# Altium schematic symbol library ETS_Library.SchLib: 127 symbols (part 2 of 3)
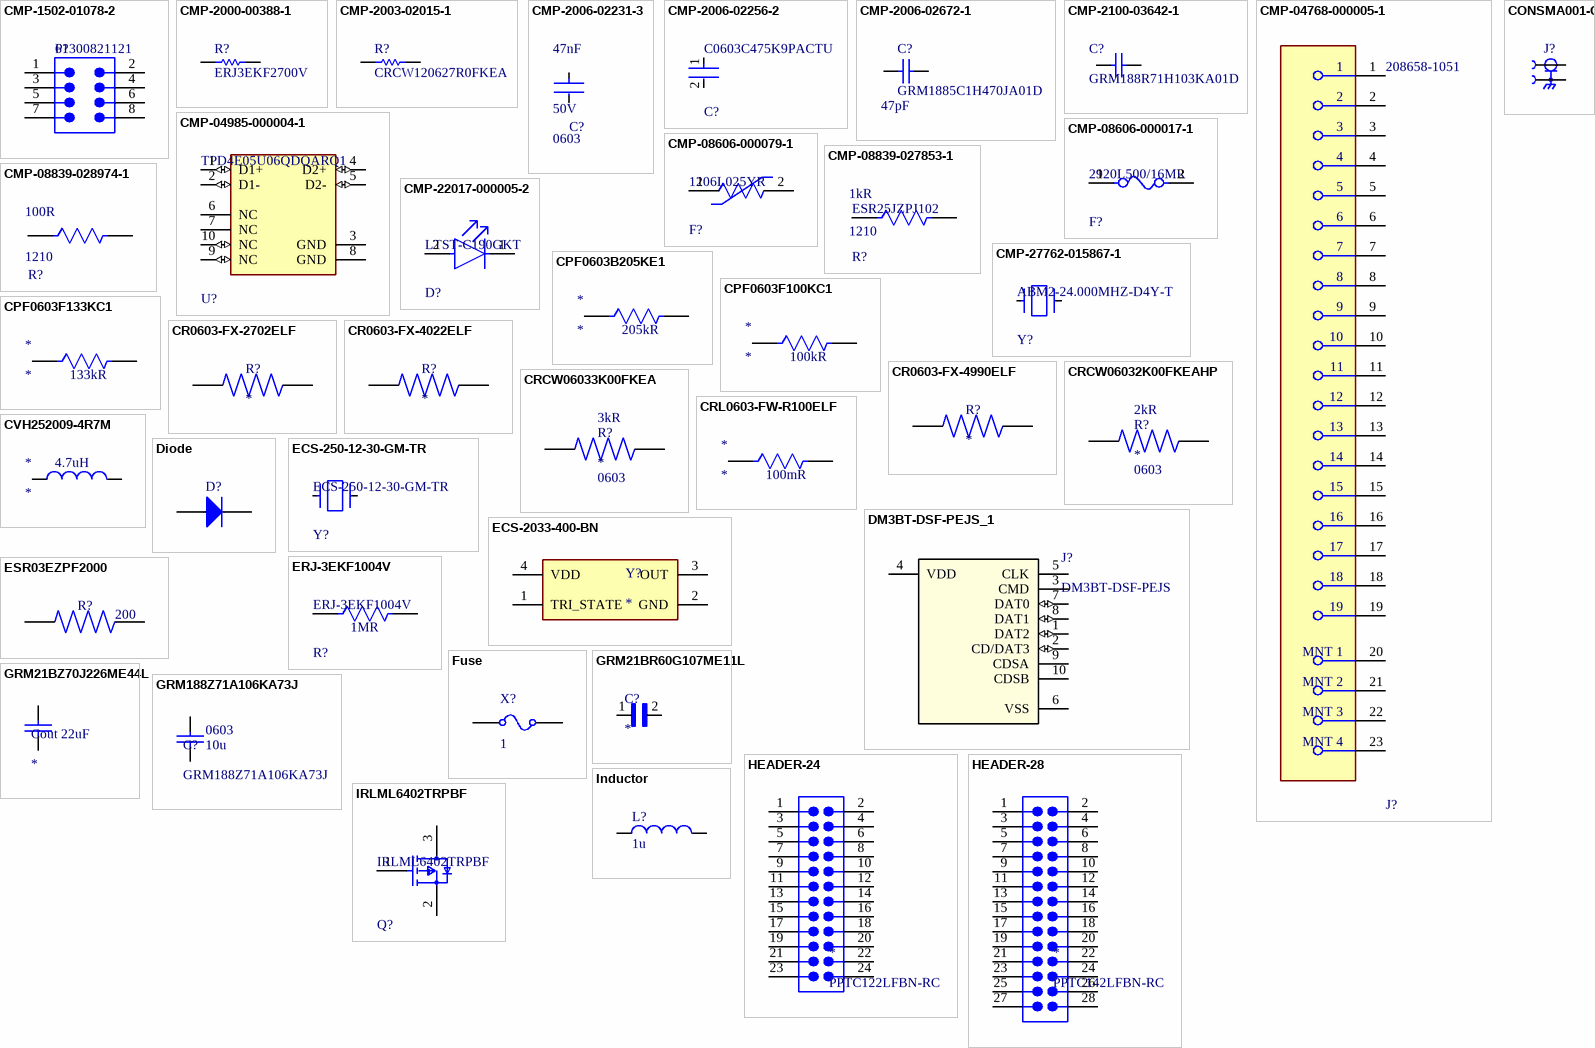
[diagram p4: symbols CMP-1502-01078-2 to IRLML6402TRPBF]

## CPF0603F100KC1
designator *  value 100kR
RES SMD 100K OHM 1% 1/16W 0603; Manufacturer: TE Connectivity Neohm; Manufacturer Part Number: CPF0603F100KC1; Additional Feature: PRECISION; Power: 63mW; Rated Temperature: 70°C; Temperature Coefficient: 50ppm/°C; Working Voltage: 50V; Package Height: 0.45mm; Package Length: 1.55mm; Package Width: 0.8mm; Supplier: Arrow Electronics; Supplier Part Number: CPF0603F100KC1; RoHS: Yes; Category: Chip SMD Resistors; Stock: 3000; Pricing: 1000=0.0177 (USD); Mounting Technology: Surface Mount; Pins: 2; Package Shape: Rectangular; Case/Package: 0603; Min Operating Temperature: -55°C; Max Operating Temperature: 155°C; Tolerance: 1%; Resistor Type: FIXED RESISTOR; Packaging: Tape and Reel; Technology: THIN FILM; Termination: Wraparound; Construction: Chip; Package Style: SMTMeter; Reach SVHC Compliant: Yes; RoHS Compliant: Yes; ComponentLink1URL: https://datasheet.ciiva.com:443/pdfs/VipMasterIC/IC/TYEL/TYEL-S-A0009515815/TYEL-S-A0009514233-1.pdf?src-supplier=IHS+Markit; ComponentLink1Description: https://datasheet.ciiva.com:443/pdfs/VipMasterIC/IC/TYEL/TYEL-S-A0009515815/TYEL-S-A0009514233-1.pdf?src-supplier=IHS+Markit; ComponentLink2URL: https://datasheet.ciiva.com/22692/1786775-22692855.pdf?src-supplier=Element14; ComponentLink2Description: https://datasheet.ciiva.com/22692/1786775-22692855.pdf?src-supplier=Element14; ComponentLink3URL: https://datasheet.ciiva.com/12794/eng-ds-1773200-i-12794495.pdf?src-supplier=Mouser; ComponentLink3Description: https://datasheet.ciiva.com/12794/eng-ds-1773200-i-12794495.pdf?src-supplier=Mouser; ComponentLink4URL: https://datasheet.ciiva.com/7789/eng-ds-1773200-j-7789557.pdf?src-supplier=Element14; ComponentLink4Description: https://datasheet.ciiva.com/7789/eng-ds-1773200-j-7789557.pdf?src-supplier=Element14
footprint RES_CPF0603_TEC
footprint RES_CPF0603_TEC-L
footprint RES_CPF0603_TEC-M
pins: 1, 2

## CPF0603F133KC1
designator *  value 133kR
RES SMD 133K OHM 1% 1/16W 0603; Manufacturer: TE Connectivity Neohm; Manufacturer Part Number: CPF0603F133KC1; Additional Feature: SEMI PRECISION; Power: 63mW; Rated Temperature: 70°C; Temperature Coefficient: 50ppm/°C; Working Voltage: 50V; Package Height: 0.45mm; Package Length: 1.55mm; Package Width: 0.8mm; Supplier: Newark; Supplier Part Number: 73M9717; RoHS: Yes; Category: Chip SMD Resistors; Stock: 179; Pricing: 1=0.153, 10=0.126, 25=0.098, 50=0.084, 100=0.056 (CAD); Mounting Technology: Surface Mount; Pins: 2; Package Shape: Rectangular; Case/Package: 0603; Min Operating Temperature: -55°C; Max Operating Temperature: 155°C; Tolerance: 1%; Resistor Type: FIXED RESISTOR; Packaging: Tape and Reel; Technology: THIN FILM; Termination: Wraparound; Construction: Chip; Package Style: SMTMeter; Reach SVHC Compliant: Yes; RoHS Compliant: Yes; ComponentLink1URL: https://www.te.com:443/usa-en/product-6-1879338-8.datasheet.pdf?src-supplier=IHS+Markit; ComponentLink1Description: https://www.te.com:443/usa-en/product-6-1879338-8.datasheet.pdf?src-supplier=IHS+Markit; ComponentLink2URL: https://datasheet.ciiva.com/22692/1786775-22692871.pdf?src-supplier=Element14; ComponentLink2Description: https://datasheet.ciiva.com/22692/1786775-22692871.pdf?src-supplier=Element14; ComponentLink3URL: https://datasheet.ciiva.com/7789/eng-ds-1773200-j-7789578.pdf?src-supplier=Element14; ComponentLink3Description: https://datasheet.ciiva.com/7789/eng-ds-1773200-j-7789578.pdf?src-supplier=Element14; ComponentLink4URL: https://datasheet.ciiva.com/12728/eng-ds-1773200-i-12728457.pdf?src-supplier=Mouser; ComponentLink4Description: https://datasheet.ciiva.com/12728/eng-ds-1773200-i-12728457.pdf?src-supplier=Mouser
footprint RES_CPF0603_TEC
footprint RES_CPF0603_TEC-L
footprint RES_CPF0603_TEC-M
pins: 1, 2

## CR0603-FX-2702ELF
designator R?
RES SMD 27K OHM 1% 1/10W 0603; MP: CR0603-FX-2702ELF; Package: None; Price: None; Value: *; Availability: Unavailable
footprint RESC1608X55N
pins: 1, 2

## CR0603-FX-4022ELF
designator R?
Resistor,Ruthenium Oxide,40.2KOhms,50WV,1+/-% Tol,-100,100ppm-TC,0603-Case <a href="https://pricing.snapeda.com/parts/CR0603-FX-4022ELF/Bourns/view-part?ref=eda">Check availability</a>; MF: {'manufacturer': u'Bourns Inc.'}; Package: None; Price: None; Value: *; MP: CR0603-FX-4022ELF; Availability: Unavailable
footprint RESC1608X55N
pins: 1, 2

## CR0603-FX-4990ELF
designator R?
Res Thick Film 0603 499 Ohm 1% 0.1W(1/10W) ??100ppm/C Molded SMD Paper Tape on Plastic Reel; MP: CR0603-FX-4990ELF; Package: None; Price: None; Value: *; Availability: Unavailable
footprint RESC1608X55N
pins: 1, 2

## CRCW06032K00FKEAHP
designator R?  value 2kR  Case/Package: 0603
RES SMD 2K OHM 1% 1/3W 0603; Manufacturer: Vishay; Manufacturer Part Number: CRCW06032K00FKEA; Power: 100mW; Rated Temperature: 70°C; Working Voltage: 75V; Temperature Coefficient (ppm/Cel): 100; Package Height: 0.45mm; Package Length: 1.55mm; Package Width: 0.85mm; Reference Standard: AEC-Q200; Supplier: Avnet; Supplier Part Number: CRCW06032K00FKEA; RoHS: Yes; Category: Chip SMD Resistors; Stock: 2445000; Pricing: 5000=0.00112 (USD); Mounting Technology: Surface Mount; Pins: 2; Terminal Finish: Nickel; Package Shape: Rectangular; Min Operating Temperature: -55°C; Max Operating Temperature: 155°C; Tolerance: 1%; JESD-609 Code: e3; Resistor Type: FIXED RESISTOR; Construction: Chip; Packaging: Tape and Reel; Technology: METAL GLAZE/THICK FILM; Termination: Wraparound; Reach SVHC Compliant: Yes; RoHS Compliant: Yes; ComponentLink1URL: https://datasheet.ciiva.com:443/pdfs/VipMasterIC/IC/VISH/VISH-S-A0007266705/VISH-S-A0007266705-1.pdf?src-supplier=IHS+Markit; ComponentLink1Description: https://datasheet.ciiva.com:443/pdfs/VipMasterIC/IC/VISH/VISH-S-A0007266705/VISH-S-A0007266705-1.pdf?src-supplier=IHS+Markit; ComponentLink2URL: https://datasheet.ciiva.com/2465/dcrcwe3-2465564.pdf?src-supplier=Digikey; ComponentLink2Description: https://datasheet.ciiva.com/2465/dcrcwe3-2465564.pdf?src-supplier=Digikey; ComponentLink3URL: https://datasheet.ciiva.com/2465/dcrcwe3-2465565.pdf?src-supplier=Digikey; ComponentLink3Description: https://datasheet.ciiva.com/2465/dcrcwe3-2465565.pdf?src-supplier=Digikey; ComponentLink4URL: https://datasheet.ciiva.com/2465/dcrcwe3-2465566.pdf?src-supplier=Digikey; ComponentLink4Description: https://datasheet.ciiva.com/2465/dcrcwe3-2465566.pdf?src-supplier=Digikey; ComponentLink5URL: https://datasheet.ciiva.com/16755/70201119-16755770.pdf?src-supplier=Allied+Electronics; ComponentLink5Description: https://datasheet.ciiva.com/16755/70201119-16755770.pdf?src-supplier=Allied+Electronics; ComponentLink6URL: https://datasheet.ciiva.com/16765/70201119-16765388.pdf?src-supplier=Allied+Electronics; ComponentLink6Description: https://datasheet.ciiva.com/16765/70201119-16765388.pdf?src-supplier=Allied+Electronics; ComponentLink7URL: https://datasheet.ciiva.com/7673/1720486-7673525.pdf?src-supplier=Element14; ComponentLink7Description: https://datasheet.ciiva.com/7673/1720486-7673525.pdf?src-supplier=Element14; ComponentLink8URL: https://datasheet.ciiva.com/28621/125364-28621397.pdf?src-supplier=Element14; ComponentLink8Description: https://datasheet.ciiva.com/28621/125364-28621397.pdf?src-supplier=Element14; ComponentLink9URL: https://datasheet.ciiva.com/3257/dcrcwe3-3257366.pdf?src-supplier=Avnet; ComponentLink9Description: https://datasheet.ciiva.com/3257/dcrcwe3-3257366.pdf?src-supplier=Avnet; ComponentLink10URL: https://datasheet.ciiva.com/3257/dcrcwe3-3257367.pdf?src-supplier=Avnet; ComponentLink10Description: https://datasheet.ciiva.com/3257/dcrcwe3-3257367.pdf?src-supplier=Avnet; ComponentLink11URL: https://datasheet.ciiva.com/26314/fld-crcw-e3-data-en-26314682.pdf?src-supplier=Distrelec; ComponentLink11Description: https://datasheet.ciiva.com/26314/fld-crcw-e3-data-en-26314682.pdf?src-supplier=Distrelec; ComponentLink12URL: https://datasheet.ciiva.com/5551/dcrcwe3-109170-5551994.pdf?src-supplier=Mouser; ComponentLink12Description: https://datasheet.ciiva.com/5551/dcrcwe3-109170-5551994.pdf?src-supplier=Mouser
footprint RC0603N_YAG
pins: 1, 2

## CRCW06033K00FKEA
designator R?  value 3kR  Case/Package: 0603
RES SMD 3K OHM 1% 1/10W 0603; Manufacturer: Vishay; Manufacturer Part Number: CRCW06033K00FKEA; Power: 100mW; Rated Temperature: 70°C; Working Voltage: 75V; Temperature Coefficient (ppm/Cel): 100; Package Height: 0.45mm; Package Length: 1.55mm; Package Width: 0.85mm; Reference Standard: AEC-Q200; Supplier: Avnet; Supplier Part Number: CRCW06033K00FKEA; RoHS: Yes; Category: Chip SMD Resistors; Stock: 1745000; Pricing: 5000=0.00112 (USD); Mounting Technology: Surface Mount; Pins: 2; Terminal Finish: Nickel; Package Shape: Rectangular; Min Operating Temperature: -55°C; Max Operating Temperature: 155°C; Tolerance: 1%; JESD-609 Code: e3; Resistor Type: FIXED RESISTOR; Construction: Chip; Packaging: Tape and Reel; Technology: METAL GLAZE/THICK FILM; Termination: Wraparound; Reach SVHC Compliant: Yes; RoHS Compliant: Yes; ComponentLink1URL: https://datasheet.ciiva.com:443/pdfs/VipMasterIC/IC/VISH/VISH-S-A0007266705/VISH-S-A0007266705-1.pdf?src-supplier=IHS+Markit; ComponentLink1Description: https://datasheet.ciiva.com:443/pdfs/VipMasterIC/IC/VISH/VISH-S-A0007266705/VISH-S-A0007266705-1.pdf?src-supplier=IHS+Markit; ComponentLink2URL: https://datasheet.ciiva.com/11809/0900766b80d98afc-11809944.pdf?src-supplier=Rs; ComponentLink2Description: https://datasheet.ciiva.com/11809/0900766b80d98afc-11809944.pdf?src-supplier=Rs; ComponentLink3URL: https://datasheet.ciiva.com/2466/dcrcwe3-2466029.pdf?src-supplier=Digikey; ComponentLink3Description: https://datasheet.ciiva.com/2466/dcrcwe3-2466029.pdf?src-supplier=Digikey; ComponentLink4URL: https://datasheet.ciiva.com/2466/dcrcwe3-2466030.pdf?src-supplier=Digikey; ComponentLink4Description: https://datasheet.ciiva.com/2466/dcrcwe3-2466030.pdf?src-supplier=Digikey; ComponentLink5URL: https://datasheet.ciiva.com/2466/dcrcwe3-2466031.pdf?src-supplier=Digikey; ComponentLink5Description: https://datasheet.ciiva.com/2466/dcrcwe3-2466031.pdf?src-supplier=Digikey; ComponentLink6URL: https://datasheet.ciiva.com/3257/dcrcwe3-3257528.pdf?src-supplier=Avnet; ComponentLink6Description: https://datasheet.ciiva.com/3257/dcrcwe3-3257528.pdf?src-supplier=Avnet; ComponentLink7URL: https://datasheet.ciiva.com/3257/dcrcwe3-3257529.pdf?src-supplier=Avnet; ComponentLink7Description: https://datasheet.ciiva.com/3257/dcrcwe3-3257529.pdf?src-supplier=Avnet; ComponentLink8URL: https://datasheet.ciiva.com/5545/dcrcwe3-109170-5545849.pdf?src-supplier=Mouser; ComponentLink8Description: https://datasheet.ciiva.com/5545/dcrcwe3-109170-5545849.pdf?src-supplier=Mouser; ComponentLink9URL: https://datasheet.ciiva.com/16767/70201119-16767917.pdf?src-supplier=Allied+Electronics; ComponentLink9Description: https://datasheet.ciiva.com/16767/70201119-16767917.pdf?src-supplier=Allied+Electronics; ComponentLink10URL: https://datasheet.ciiva.com/16778/70201119-16778734.pdf?src-supplier=Allied+Electronics; ComponentLink10Description: https://datasheet.ciiva.com/16778/70201119-16778734.pdf?src-supplier=Allied+Electronics; ComponentLink11URL: https://datasheet.ciiva.com/7690/1697337-7690717.pdf?src-supplier=Element14; ComponentLink11Description: https://datasheet.ciiva.com/7690/1697337-7690717.pdf?src-supplier=Element14; ComponentLink12URL: https://datasheet.ciiva.com/7690/1720486-7690863.pdf?src-supplier=Element14; ComponentLink12Description: https://datasheet.ciiva.com/7690/1720486-7690863.pdf?src-supplier=Element14
footprint RC0603N_YAG
pins: 1, 2

## CRL0603-FW-R100ELF
designator *  value 100mR
RES 0.1 OHM 1% 1/8W 0603; Manufacturer: Bourns; Manufacturer Part Number: CRL0603-FW-R100ELF; Temperature Coefficient: 200ppm/°C; Power Rating: 100mW; Supplier: Arrow Electronics; Supplier Part Number: CRL0603-FW-R100ELF; RoHS: Yes; Category: Chip SMD Resistors; Stock: 686; Pricing: 1=0.1408, 10=0.04, 25=0.0396, 100=0.0335, 250=0.0331, 500=0.0322 (USD); Mounting Technology: Surface Mount; Case/Package: 0603; Pins: 2; Contact Plating: Tin; Case Code (Imperial): 0603; Case Code (Metric): 1608; Min Operating Temperature: -55°C; Max Operating Temperature: 125°C; Tolerance: 1%; Resistor Type: Thick Film; Packaging: Tape and Reel; Package Quantity: 5000; Termination: SMD/SMT; Number of Terminations: 2; Max Power Dissipation: 100mW; Series: CRL; Resistance Tolerance: 1%; Technology: THICK FILM; Length: 1.6mm; Width: 0.8mm; Height: 0.45mm; Depth: 0.8mm; Radiation Hardening: No; Reach SVHC Compliant: No; RoHS Compliant: Yes; ComponentLink1URL: https://datasheet.ciiva.com/11821/0900766b80fcdbbc-11821107.pdf?src-supplier=Rs; ComponentLink1Description: https://datasheet.ciiva.com/11821/0900766b80fcdbbc-11821107.pdf?src-supplier=Rs; ComponentLink2URL: https://datasheet.ciiva.com/22693/1896411-22693272.pdf?src-supplier=Element14; ComponentLink2Description: https://datasheet.ciiva.com/22693/1896411-22693272.pdf?src-supplier=Element14; ComponentLink3URL: https://datasheet.ciiva.com/6548/crl-6548261.pdf?src-supplier=Digikey; ComponentLink3Description: https://datasheet.ciiva.com/6548/crl-6548261.pdf?src-supplier=Digikey; ComponentLink4URL: https://datasheet.ciiva.com/6548/crl-6548262.pdf?src-supplier=Digikey; ComponentLink4Description: https://datasheet.ciiva.com/6548/crl-6548262.pdf?src-supplier=Digikey; ComponentLink5URL: https://datasheet.ciiva.com/9120/crl-9120710.pdf?src-supplier=Avnet; ComponentLink5Description: https://datasheet.ciiva.com/9120/crl-9120710.pdf?src-supplier=Avnet
footprint BO_CR0603
footprint BO_CR0603-L
footprint BO_CR0603-M
pins: 1, 2

## CVH252009-4R7M
designator *  Inductance-Nom (L): 4.7uH
FIXED IND 4.7UH 1.1A 110MOHM SMD 1008; Manufacturer: Bourns; Manufacturer Part Number: CVH252009-4R7M; Core Material: Ferrite; Tolerance: 20%; Case/Size Code: 1008; DC Resistance (DCR): 110mR; Inductor Application: POWER INDUCTOR; Inductor Type: GENERAL PURPOSE INDUCTOR; Channels: 1; Self Resonant Frequency: 25MHz; Shape/Size Description: RECTANGULAR PACKAGE; Shielding: Shielded; Test Frequency: 1MHz; Supplier: Arrow Electronics; Supplier Part Number: CVH252009-4R7M; RoHS: Yes; Category: Fixed Inductors; Stock: 33000; Pricing: 3000=0.0982, 6000=0.0945, 15000=0.0918, 30000=0.0881, 75000=0.085 (USD); Pins: 2; Terminal Finish: Tin; Min Operating Temperature: -55°C; Max Operating Temperature: 125°C; JESD-609 Code: e3; Surface Mount: Yes; Max Current Rating: 1.1A; Terminal Placement: Dual Ended; Termination: Wraparound; Reach SVHC Compliant: Yes; RoHS Compliant: Yes; ComponentLink1URL: https://datasheet.ciiva.com:443/pdfs/VipMasterIC/IC/BOUR/BOUR-S-A0006761511/BOUR-S-A0006777658-1.pdf?src-supplier=IHS+Markit; ComponentLink1Description: https://datasheet.ciiva.com:443/pdfs/VipMasterIC/IC/BOUR/BOUR-S-A0006761511/BOUR-S-A0006777658-1.pdf?src-supplier=IHS+Markit; ComponentLink2URL: https://datasheet.ciiva.com/7849/1610598-7849319.pdf?src-supplier=Element14; ComponentLink2Description: https://datasheet.ciiva.com/7849/1610598-7849319.pdf?src-supplier=Element14; ComponentLink3URL: https://datasheet.ciiva.com/8003/1610598-8003733.pdf?src-supplier=Element14; ComponentLink3Description: https://datasheet.ciiva.com/8003/1610598-8003733.pdf?src-supplier=Element14; ComponentLink4URL: https://datasheet.ciiva.com/3079/cvh-3079748.pdf?src-supplier=Avnet; ComponentLink4Description: https://datasheet.ciiva.com/3079/cvh-3079748.pdf?src-supplier=Avnet; ComponentLink5URL: https://datasheet.ciiva.com/22874/70301233-22874397.pdf?src-supplier=Allied+Electronics; ComponentLink5Description: https://datasheet.ciiva.com/22874/70301233-22874397.pdf?src-supplier=Allied+Electronics
footprint IND_BOURNS_CVH252009
pins: 1, 2

## Diode
designator D?  (value not drawn)
AF: 1; BV: 0; BV_MAX: 1e99; EG: 1.11; FC: 0.5; IBV: 0.001; ISR: 1e-14; MJSW: 0.33; NTUN: 30; TNOM: 27; XTI: 3; SimulationGenericComponent: True; CJO: 0; CJP: 0; CTA: 0; CTP: 0; FCS: 0.5; FV_MAX: 1e99; IKF: 0; IKR: 0; JSW: 0; JTUN: 0; JTUNSW: 0; KEG: 1; KF: 0; LEVEL: 1; N: 1; NBV: 1; NR: 1; NS: 1; PHP: 1; RS: 0; TCV: 0; TLEV: 0; TLEVC: 0; TM1: 0; TM2: 0; TPB: 0; TPHP: 0; TRS: 0; TRS2: 0; TT: 0; TTT1: 0; TTT2: 0; VJ: 1; XTITUN: 3; IS: 1e-14
simulation model diode (Diodes)
pins: 1 A, 2 K

## DM3BT-DSF-PEJS_1
designator J?, comment DM3BT-DSF-PEJS
CONN MICRO SD CARD PUSH-PUSH R/A; Mfr_Name: Hirose; Copyright: Copyright (C) 2024 Ultra Librarian. All rights reserved.; Manufacturer_Part_Number: DM3BT-DSF-PEJS; RefDes: RefDes; Type: DEV
footprint DM3BT-DSF-PEJS_HIR
pins: 1 DAT2 (io), 2 CD/DAT3 (io), 3 CMD, 4 VDD (power), 5 CLK, 6 VSS (power), 7 DAT0 (io), 8 DAT1 (io), 9 CDSA, 10 CDSB

## ECS-250-12-30-GM-TR
designator Y?
CRYSTAL 25.0000MHZ 12PF SMD
footprint FP-ECX-53-MFG
pins: 1 In/Out, 2 Out/In

## ECS-2033-400-BN
designator Y?
subminiature SMD oscillators; MP: ECS-2033-400-BN; Package: None; Price: None; Value: *; Availability: Unavailable
footprint OSC_ECS-2033-400-BN
pins: 1 TRI_STATE, 2 GND (power), 3 OUT, 4 VDD

## ERJ-3EKF1004V
designator R?  Resistance: 1MR
RES SMD 1M OHM 1% 1/10W 0603; Voltage Rating: 75V; Temperature Coefficient: 100ppm/°C; Power Rating: 100mW; REACH SVHC: No SVHC; Radiation Hardening: No; Features: Automotive AEC-Q200; Case Code (Metric): 1608; Resistance Tolerance: 1%; Case/Package: 0603; Termination: SMD/SMT; Max Operating Temperature: 155°C; Tolerance: 1%; Size Code: 0603; Case Code (Imperial): 0603; Min Operating Temperature: -55°C; Number of Pins: 2; Mount: Surface Mount; Package Quantity: 1; Military Standard: Not; Voltage Rating (DC): 75V; Depth: 0.8mm; Packaging: Tape and Reel; Width: 0.8mm; Number of Terminations: 2; Length: 1.6mm; Height: 0.022inch; RoHS Compliant: Yes; Resistor Type: Thick Film; Contact Plating: Tin; Lead Free: Lead Free; Series: ERJ; Construction: Rectangular; Max Power Dissipation: 100mW
footprint FP-ERJ3EK-IPC_A
footprint FP-ERJ3EK-IPC_C
footprint FP-ERJ3EK-IPC_B
footprint FP-ERJ3EK-MFG
pins: 1, 2

## ESR03EZPF2000
designator R?  value 200  (hidden comment: ESR03EZPF2000)
RES 200 OHM 1% 1/4W 0603; Package: None; Price: None; MP: ESR03EZPF2000; Availability: Unavailable
footprint RESC1608X55N
pins: 1, 2

## Fuse
designator X?  CURRENT: 1  (hidden comment: Fuse)
RESISTANCE: 1m; SimulationGenericComponent: True
simulation model FUSE
pins: 1, 2

## GRM21BR60G107ME11L
designator C?
SMD Capacitor X5R(EIA) with Capacitance: 100uF Tol. 20%. Rated Voltage: 4Vdc; MP: GRM21BR60G107ME11L; Package: None; Price: None; Value: *; Availability: Unavailable
footprint CAPC2012X145N
pins: 1, 2

## GRM21BZ70J226ME44L
designator Cout  value 22uF
CAP CER 22UF 6.3V X7R 0805; Manufacturer: Murata; Manufacturer Part Number: GRM21BZ70J226ME44L; Dielectric Material: Ceramic; Multilayer: Yes; Tolerance  (fill in as +-): 20%; Supplier: Newark; Supplier Part Number: 66AJ7211; RoHS: Yes; Category: Ceramic Capacitors; Stock: 1070; Pricing: 10=0.191, 25=0.168, 50=0.145, 100=0.122 (USD); Mounting Technology: Surface Mount; Pins: 2; Package Shape: Rectangular; Case/Package: 0805; Min Operating Temperature: -55°C; Max Operating Temperature: 125°C; Capacitor Type: Ceramic; Packaging: Tape and Reel; Tolerance (fill in as +-): 20%; Rated DC Voltage (URdc): 6.3V; Temperature Characteristics Code: X7R; Termination: Wraparound; Reach SVHC Compliant: Yes; RoHS Compliant: Yes; ComponentLink1URL: https://psearch.en.murata.com:443/capacitor/product/GRM21BZ70J226ME44%23.pdf?src-supplier=IHS+Markit; ComponentLink1Description: https://psearch.en.murata.com:443/capacitor/product/GRM21BZ70J226ME44%23.pdf?src-supplier=IHS+Markit
footprint CAP_GRM21BZ_MUR
footprint CAP_GRM21BZ_MUR-L
footprint CAP_GRM21BZ_MUR-M
pins: 1, 2

## GRM188Z71A106KA73J
designator C?  value 10u  Package: 0603
CAP CER 10UF 10V X7R 0603; Manufacturer: Murata; Dielectric Material: Ceramic; Multilayer: Yes; Tolerance  (fill in as +-): 10%; Supplier: Mouser; Supplier Part Number: 81-GRM188Z71A106KA3J; Manufacturer Part Number: GRM188Z71A106KA73J; RoHS: Yes; Category: Ceramic Capacitors; Stock: 19133; Pricing: 1=0.23, 10=0.121, 50=0.121, 100=0.073, 1000=0.056, 10000=0.041 (USD); Mounting Technology: Surface Mount; Pins: 2; Package Shape: Rectangular; Min Operating Temperature: -55°C; Max Operating Temperature: 125°C; Capacitor Type: Ceramic; Packaging: Tape and Reel; Tolerance (fill in as +-): 10%; Rated DC Voltage (URdc): 10V; Temperature Characteristics Code: X7R; Termination: Wraparound; Reach SVHC Compliant: Yes; RoHS Compliant: Yes; ComponentLink1URL: https://psearch.en.murata.com:443/capacitor/product/GRM188Z71A106KA73%23.pdf?src-supplier=IHS+Markit; ComponentLink1Description: https://psearch.en.murata.com:443/capacitor/product/GRM188Z71A106KA73%23.pdf?src-supplier=IHS+Markit
footprint C0603-V2
pins: 1, 2

## HEADER-24
designator *, comment PPTC122LFBN-RC
CONN HDR 24POS 0.1 TIN PCB
footprint RHDR24W80P254_2X12_3098X508X870P
pins: 1, 2, 3, 4, 5, 6, 7, 8, 9, 10, 11, 12, 13, 14, 15, 16, 17, 18, 19, 20, 21, 22, 23, 24

## HEADER-28
designator *, comment PPTC142LFBN-RC
CONN HDR 28POS 0.1 TIN PCB
footprint CONN28_FBN-RC_SUL
pins: 1, 2, 3, 4, 5, 6, 7, 8, 9, 10, 11, 12, 13, 14, 15, 16, 17, 18, 19, 20, 21, 22, 23, 24, 25, 26, 27, 28

## Inductor
designator L?  value 1u  (hidden comment: Inductor)
SimulationGenericComponent: True
simulation model L_Inductor_Default (INDUCTOR)
pins: 1, 2

## IRLML6402TRPBF
designator Q?
MOSFET P-CH 20V 3.7A SOT-23; Manufacturer: Infineon; Reverse Recovery Time: 29ns; Max Forward Diode Voltage: -1.2V; Input Capacitace At Vds: 633pF @ -10V; Drain To Source Resistance: 0.05Ω; Gate To Source Voltage: 12V; Max Junction Temp: +150°C; Pulse Drain Current: -22A; Threshold Vgs Min: -0.4V; Turn Off Delay Time: 588ns; Number Of Channels: 1; Power Dissipation: 1.3W; Turn On Delay Time: 350ns; Drain To Source Breakdown Voltage: -20V; Continuous Drain Current: -3.7A; Depletion Mode: False; Gate Charge At Vgs: 8nC @ -5V; Rthja Max: 75°C/W; Threshold Vgs: -0.55V; Standoff Height: 0.01mm; Reverse Recovery Charge: 11nC; Device Class L2: Transistors; Ipc Land Pattern Name: SOT95P237X100-3; Temperature Range High: +150°C; Octopart: https://octopart.com/irlml6402trpbf-infineon-65874989; ComponentLink2URL: https://www.infineon.com/dgdl/irlml6402pbf.pdf?fileId=5546d462533600a401535668d5c2263c; Automotive: No; Manufacturer Part Number: IRLML6402TRPBF; Height: 1.12mm; Drain To Source Voltage: -20V; Digikey Description: MOSFET P-CH 20V 3.7A SOT-23; Device Class L1: Discrete Semiconductors; Package: Micro3; Lead Free: Yes; Temperature Range Low: -55°C; Number Of P Channels: 1; Technology: MOSFET; Temperature: -55°C to +150°C; Category: Trans; Footprint Url: http://irf.com/package/outline/po_micro3.pdf; RoHS: TRUE; Device Class L3: MOSFETs; Threshold Vgs Max: -1.2V; ComponentLink2Description: Datasheet
footprint FP-Micro3-MFG
pins: 1 G, 2 S, 3 D

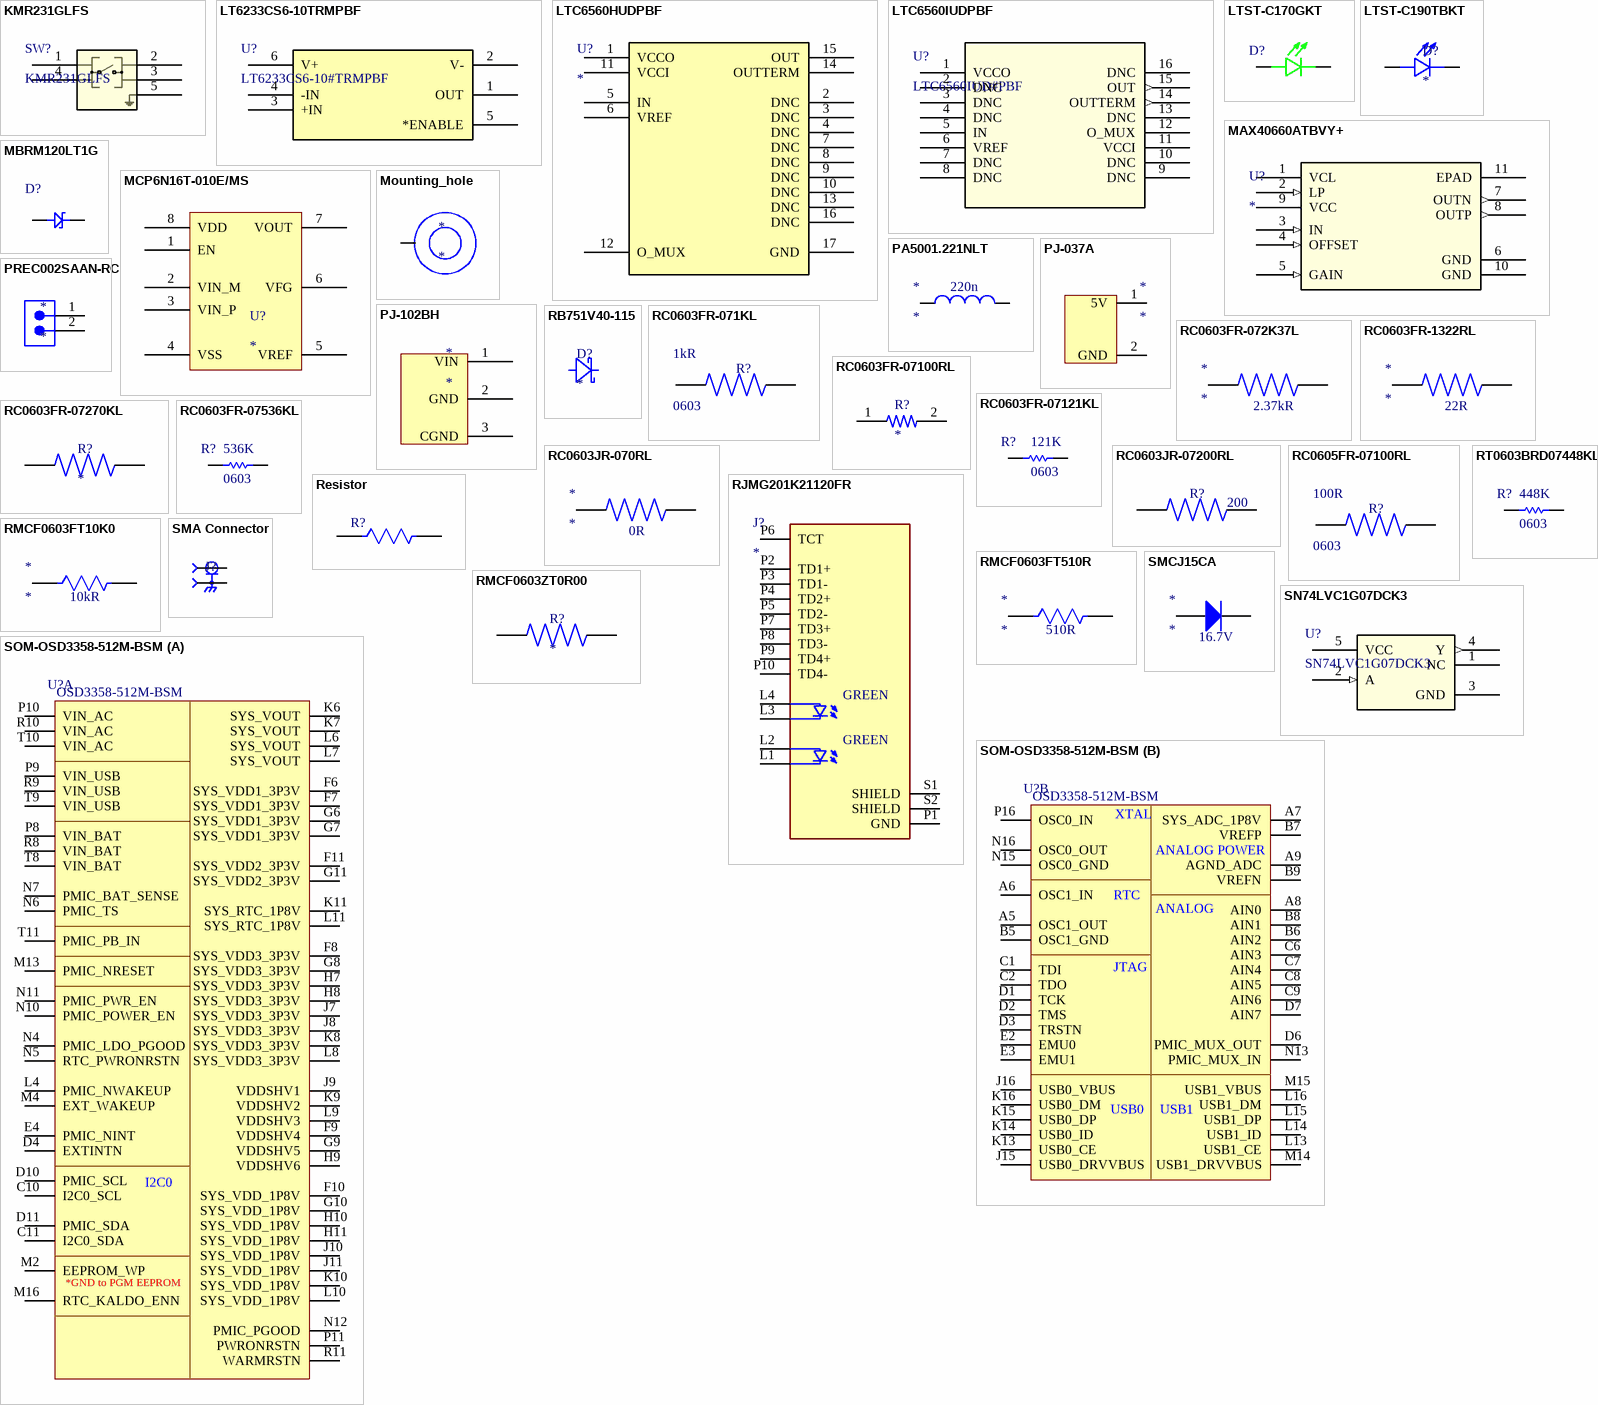
[diagram p2: symbols KMR231GLFS to SOM-OSD3358-512M-BSM]

## KMR231GLFS
designator SW?
SWITCH TACTILE SPST-NO 0.05A 32V; Mfr_Name: C&K Components; Copyright: Copyright (C) 2024 Ultra Librarian. All rights reserved.; Manufacturer_Part_Number: KMR231GLFS; RefDes: RefDes; Type: DEV
footprint KMR2xxG_CNK
pins: 1, 2, 3, 4, 5

## LT6233CS6-10TRMPBF
designator U?, comment LT6233CS6-10#TRMPBF
60MHz, Rail-to-Rail Output, 1.9nV/âˆšHz, 1.2mA Op Amp Family; Manufacturer_Name: Analog Devices Inc; Copyright: Copyright (C) 2025 Ultra Librarian. All rights reserved.; Manufacturer_Part_Number: LT6233CS6-10#TRMPBF; Datasheet: https://www.analog.com/media/en/technical-documentation/data-sheets/623345fc.pdf; RefDes: RefDes; Type: Type
footprint TSOT-23_S6_LIT
pins: 1 OUT, 2 V-, 3 +IN, 4 -IN, 5 *ENABLE, 6 V+

## LTC6560HUDPBF
designator U?
No Description Available; Mfr_Name: Analog Devices Inc; RefDes: RefDes; Type: Type
footprint QFN16_UD_ADI
pins: 1 VCCO, 2 DNC, 3 DNC, 4 DNC, 5 IN, 6 VREF, 7 DNC, 8 DNC, 9 DNC, 10 DNC, 11 VCCI, 12 O_MUX, 13 DNC, 14 OUTTERM, 15 OUT, 16 DNC, 17 GND

## LTC6560IUDPBF
designator U?, comment LTC6560IUD#PBF
Single Channel Transimpedance Amplifier with Output Multiplexing; Manufacturer_Name: Analog Devices Inc; Copyright: Copyright (C) 2025 Ultra Librarian. All rights reserved.; Manufacturer_Part_Number: LTC6560IUD#PBF; Datasheet: https://www.analog.com/media/en/technical-documentation/data-sheets/LTC6560.pdf; RefDes: RefDes; Type: Type
footprint QFN_16_ADI
pins: 1 VCCO (power), 2 DNC, 3 DNC, 4 DNC, 5 IN, 6 VREF (power), 7 DNC, 8 DNC, 9 DNC, 10 DNC, 11 VCCI (power), 12 O_MUX, 13 DNC, 14 OUTTERM (out), 15 OUT (out), 16 DNC

## LTST-C170GKT
designator D?  (value not drawn)
LED GREEN CLEAR SMD; Manufacturer_Name: LITE-ON; Copyright: Copyright (C) 2025 Ultra Librarian. All rights reserved.; Manufacturer_Part_Number: LTST-C170GKT
footprint LED_LTST-C170GKT_LTO
pins: 1, 2

## LTST-C190TBKT
designator D?
Blue 470nm LED Indication - Discrete 3.3V 0603 (1608 Metric); MF: Lite-On Inc.; MP: LTST-C190TBKT; SnapEDA_Link: https://www.snapeda.com/parts/LTST-C190TBKT/Lite-On+Inc./view-part/?ref=snap; Package: 0603 Lite-On; Value: *; Check_prices: https://www.snapeda.com/parts/LTST-C190TBKT/Lite-On+Inc./view-part/?ref=eda
footprint LEDC1608X35N
pins: A, C

## MAX40660ATBVY+
designator U?
No Description Available; Mfr_Name: Analog Devices / Maxim Integrated; RefDes: RefDes; Type: Type
footprint 21-100317_MXM
pins: 1 VCL (power), 2 LP (in), 3 IN (in), 4 OFFSET (in), 5 GAIN (in), 6 GND (power), 7 OUTN (out), 8 OUTP (out), 9 VCC (power), 10 GND (power), 11 EPAD (power)

## MBRM120LT1G
designator D?  (value not drawn)
DIODE SCHOTTKY 20V 1A POWERMITE; Manufacturer: On Semiconductor; IFSM Max (A): 50; Configuration: Single; Packing: Tape and Reel; ComponentLink1Description: Manufacturer URL; ComponentLink3URL: http://www.onsemi.com/pub_link/Collateral/457-04.PDF; PackageDescription: 2-Pin POWERMITE, Body 1.965 x 1.9 mm; DatasheetVersion: Rev. 7; Mounting Technology: Surface Mount; ComponentLink1URL: http://www.onsemi.com/; PackageVersion: Rev. F, 05/2013; ComponentLink2Description: Datasheet; PackageReference: POWERMITE-2-457-04; RoHS: TRUE; PartNumber: MBRM120LT1G; ComponentLink2URL: http://www.onsemi.cn/pub_link/Collateral/MBRM120L-D.PDF; ComponentLink3Description: Package Specification
footprint ONSC-POWERMITE-2-457-04_D_V (POWERMITE, 2-Leads, Body 1.965x1.9mm)
pins: 1 K, 2 A

## MCP6N16T-010E/MS
designator U?
IC INST AMP 1 CIRCUIT 8MSOP; Manufacturer: Microchip; Manufacturer Part Number: MCP6N16T-010E/MS; Amplifier Type: INSTRUMENTATION AMPLIFIER; Time @ Peak Reflow Temperature-Max (s): 40s; Supplier: Newark; Supplier Part Number: 44AC2577; RoHS: Yes; Category: Amplifiers - Op Amps, Buffer, Instrumentation; Stock: 1362; Pricing: 1=2.64, 10=2.54, 25=2.16 (USD); Terminal Finish: Tin; JESD-609 Code: e3; Moisture Sensitivity Level: 1; Peak Reflow Temperature (Cel): 260°C; Reach SVHC Compliant: Yes; RoHS Compliant: Yes; ComponentLink1URL: https://datasheet.ciiva.com:443/pdfs/VipMasterIC/IC/MCHP/MCHPS05684/MCHPS05684-1.pdf?src-supplier=IHS+Markit; ComponentLink1Description: https://datasheet.ciiva.com:443/pdfs/VipMasterIC/IC/MCHP/MCHPS05684/MCHPS05684-1.pdf?src-supplier=IHS+Markit; ComponentLink2URL: http://www.mouser.com/ds/2/268/20005318A-355773.pdf?src-supplier=Mouser; ComponentLink2Description: http://www.mouser.com/ds/2/268/20005318A-355773.pdf?src-supplier=Mouser; ComponentLink3URL: http://ww1.microchip.com/downloads/en/DeviceDoc/20005318A.pdf?src-supplier=Avnet; ComponentLink3Description: http://ww1.microchip.com/downloads/en/DeviceDoc/20005318A.pdf?src-supplier=Avnet; ComponentLink4URL: http://www.microchip.com/mymicrochip/filehandler.aspx?ddocname=en571166&src-supplier=Digikey; ComponentLink4Description: http://www.microchip.com/mymicrochip/filehandler.aspx?ddocname=en571166&src-supplier=Digikey; ComponentLink5URL: https://datasheet.octopart.com/MCP6N16T-010E-MS-Microchip-datasheet-27889795.pdf?src-supplier=microchipDIRECT; ComponentLink5Description: https://datasheet.octopart.com/MCP6N16T-010E-MS-Microchip-datasheet-27889795.pdf?src-supplier=microchipDIRECT; ComponentLink6URL: https://datasheet.octopart.com/MCP6N16T-010E-MS-Microchip-datasheet-27889795.pdf?src-supplier=Electro+Sonic; ComponentLink6Description: https://datasheet.octopart.com/MCP6N16T-010E-MS-Microchip-datasheet-27889795.pdf?src-supplier=Electro+Sonic; ComponentLink7URL: https://datasheet.octopart.com/MCP6N16T-010E-MS-Microchip-datasheet-27889795.pdf?src-supplier=Master+Electronics; ComponentLink7Description: https://datasheet.octopart.com/MCP6N16T-010E-MS-Microchip-datasheet-27889795.pdf?src-supplier=Master+Electronics
footprint SOP65P490X110-8N
pins: 1 EN, 2 VIN_M, 3 VIN_P, 4 VSS, 5 VREF, 6 VFG, 7 VOUT, 8 VDD

## Mounting_hole
designator *
footprint Mounting_hole
pins: 1

## PA5001.221NLT
designator *  Inductance: 220n
FIXED IND 220NH 16.8A 4.6MOHM SM; Supplier 1: Arrow Electronics; Supplier Part Number 1: PA5001.221NLT
footprint Model Name (Footprint not found)
footprint PA5001.221NLT
pins: 1, 2

## PJ-037A
designator *
CONN PWR JACK 2X5.5MM SOLDER; Manufacturer: CUI; Manufacturer Part Number: PJ-037A; Shielding: Unshielded; Number of Conductors: 2; Supplier: Arrow Electronics; Supplier Part Number: PJ-037A; RoHS: Yes; Category: Uncategorized; Stock: 60000; Pricing: 3000=0.298700, 5000=0.294700 (USD); Termination: Through Hole; Connector Type: Jack; Orientation: Horizontal; Lead Free: Lead Free; ComponentLink1URL: http://www.mouser.com/ds/2/670/pj-037a-516020.pdf?src-supplier=Mouser; ComponentLink1Description: http://www.mouser.com/ds/2/670/pj-037a-516020.pdf?src-supplier=Mouser; ComponentLink2URL: https://www.cui.com/product/resource/digikeypdf/pj-037a.pdf?src-supplier=Digikey; ComponentLink2Description: https://www.cui.com/product/resource/digikeypdf/pj-037a.pdf?src-supplier=Digikey; ComponentLink3URL: http://www.cui.com/Product/Resource/FuturePDF/PJ-037A.pdf?src-supplier=Future+Electronics; ComponentLink3Description: http://www.cui.com/Product/Resource/FuturePDF/PJ-037A.pdf?src-supplier=Future+Electronics
pins: 1 5V, 2 GND

## PJ-102BH
designator *
2.5 x 6.5 mm, 5.0 A, Horizontal, Through Hole, Tapered Pins, Dc Power Jack Connector; Manufacturer: CUI; Manufacturer Part Number: PJ-102BH; Shielding: Unshielded; Number of Conductors: 2; Supplier: Arrow Electronics; Supplier Part Number: PJ-102BH; RoHS: Yes; Category: Uncategorized; Termination: Through Hole; Connector Type: Jack; Packaging: Bulk; Orientation: Horizontal; Diameter: 2.5mm; Lead Free: Lead Free; ComponentLink1URL: http://www.mouser.com/ds/2/670/PJ-102BH-524153.pdf?src-supplier=Mouser; ComponentLink1Description: http://www.mouser.com/ds/2/670/PJ-102BH-524153.pdf?src-supplier=Mouser; ComponentLink2URL: https://www.cui.com/product/resource/digikeypdf/pj-102bh.pdf?src-supplier=Digikey; ComponentLink2Description: https://www.cui.com/product/resource/digikeypdf/pj-102bh.pdf?src-supplier=Digikey; ComponentLink3URL: http://www.cui.com/Product/Resource/FuturePDF/PJ-102BH.pdf?src-supplier=Future+Electronics; ComponentLink3Description: http://www.cui.com/Product/Resource/FuturePDF/PJ-102BH.pdf?src-supplier=Future+Electronics
footprint CUI_PJ-102BH
pins: 1 VIN, 2 GND, 3 CGND

## PREC002SAAN-RC
designator *
CONN HEADER .100 SNGL STR 2POS; Manufacturer: Sullins; Manufacturer Part Number: PREC002SAAN-RC; Number of Positions: 2; Pitch: 0.1inch; Supplier: Digikey; Supplier Part Number: S1012EC-02-ND; RoHS: Yes; Category: Connectors; Stock: 28469; Pricing: 1=0.1, 10=0.039, 100=0.0287, 500=0.02378, 1000=0.02081, 5000=0.01784, 10000=0.01734 (USD); Mounting Technology: Through Hole; Color: Black; Contact Plating: Tin; Package Quantity: 1; Number of Rows: 1; Packaging: Bulk; Termination: Solder; Series: -; Contact Type: Male Pin; Contact Mating Length: 0.23inch; RoHS Compliant: Yes; ComponentLink1URL: https://datasheet.ciiva.com/740/zrzczzzszzn-rc-st-11635-b-740843.pdf?src-supplier=Digikey; ComponentLink1Description: https://datasheet.ciiva.com/740/zrzczzzszzn-rc-st-11635-b-740843.pdf?src-supplier=Digikey
footprint CONN_PREC002SAAN-RC_SUL
pins: 1, 2

## RB751V40-115
designator D?
Diode Schottky 40 V 120mA (DC) Surface Mount SOD-323; MF: Nexperia USA; MP: RB751V40,115; Package: SOD323-2 Nexperia USA Inc.; Price: None; Check_prices: https://www.snapeda.com/parts/RB751V40,115/Nexperia/view-part/?ref=eda; Value: *; SnapEDA_Link: https://www.snapeda.com/parts/RB751V40,115/Nexperia/view-part/?ref=snap; Availability: In Stock; Purchase-URL: https://pricing.snapeda.com/search/part/RB751V40,115/?ref=eda
footprint SOD323(NXP)REFLOW
pins: A ANODE (io), C CATHODE (io)

## RC0603FR-071KL
designator R?  value 1kR  Case/Package: 0603  (hidden comment: *)
Fixed Resistor, Metal Glaze/thick Film, 0.1W, 1000ohm, 75V, 1% +/-Tol, 100ppm/Cel, Surface Mount, 0603; Manufacturer: Yageo; Manufacturer Part Number: RC0603FR-071KL; Additional Feature: LASER TRIMMABLE; Rated Temperature: 70°C; Temperature Coefficient (ppm/Cel): 100; Power: 100mW; Package Height: 0.45mm; Package Length: 1.6mm; Package Width: 0.8mm; Supplier: Avnet; Supplier Part Number: RC0603FR-071KL; RoHS: Yes; Category: Chip SMD Resistors; Stock: 765000; Pricing: 5000=0.00146, 10000=0.00141, 20000=0.00136, 30000=0.00131, 40000=0.00127 (USD); Mounting Technology: Surface Mount; Pins: 2; Package Shape: Rectangular; Terminal Finish: Nickel; Min Operating Temperature: -55°C; Max Operating Temperature: 155°C; Tolerance: 1%; JESD-609 Code: e3; Technology: METAL GLAZE/THICK FILM; Resistor Type: FIXED RESISTOR; Construction: Chip; Packaging: Tape and Reel; Termination: Wraparound; Working Voltage: 75V; Reach SVHC Compliant: Yes; RoHS Compliant: Yes; ComponentLink1URL: https://datasheet.ciiva.com:443/pdfs/VipMasterIC/IC/YAGO/YAGO-S-A0008145938/YAGO-S-A0008145938-1.pdf?src-supplier=IHS+Markit; ComponentLink1Description: https://datasheet.ciiva.com:443/pdfs/VipMasterIC/IC/YAGO/YAGO-S-A0008145938/YAGO-S-A0008145938-1.pdf?src-supplier=IHS+Markit; ComponentLink2URL: https://datasheet.ciiva.com/11808/0900766b80f96399-11808081.pdf?src-supplier=Rs; ComponentLink2Description: https://datasheet.ciiva.com/11808/0900766b80f96399-11808081.pdf?src-supplier=Rs; ComponentLink3URL: https://datasheet.ciiva.com/7660/1868787-7660790.pdf?src-supplier=Element14; ComponentLink3Description: https://datasheet.ciiva.com/7660/1868787-7660790.pdf?src-supplier=Element14; ComponentLink4URL: https://datasheet.ciiva.com/7746/1738695-7746279.pdf?src-supplier=Element14; ComponentLink4Description: https://datasheet.ciiva.com/7746/1738695-7746279.pdf?src-supplier=Element14; ComponentLink5URL: https://datasheet.ciiva.com/7746/1686128-7746280.pdf?src-supplier=Element14; ComponentLink5Description: https://datasheet.ciiva.com/7746/1686128-7746280.pdf?src-supplier=Element14; ComponentLink6URL: https://datasheet.ciiva.com/7746/1738695-7746281.pdf?src-supplier=Element14; ComponentLink6Description: https://datasheet.ciiva.com/7746/1738695-7746281.pdf?src-supplier=Element14; ComponentLink7URL: https://datasheet.ciiva.com/7983/443971-7983613.pdf?src-supplier=Element14; ComponentLink7Description: https://datasheet.ciiva.com/7983/443971-7983613.pdf?src-supplier=Element14; ComponentLink8URL: https://datasheet.ciiva.com/15189/getdatasheetpartid-404327-15189644.pdf?src-supplier=Verical; ComponentLink8Description: https://datasheet.ciiva.com/15189/getdatasheetpartid-404327-15189644.pdf?src-supplier=Verical; ComponentLink9URL: https://datasheet.ciiva.com/8896/pyu-rc0603-51-rohs-l-4-8896106.pdf?src-supplier=Avnet; ComponentLink9Description: https://datasheet.ciiva.com/8896/pyu-rc0603-51-rohs-l-4-8896106.pdf?src-supplier=Avnet
footprint RC0603N_YAG
pins: 1, 2

## RC0603FR-072K37L
designator *  value 2.37kR
RES 2.37K OHM 1% 1/10W 0603; Manufacturer: Yageo; Manufacturer Part Number: RC0603FR-072K37L; Additional Feature: LASER TRIMMABLE; Power: 100mW; Rated Temperature: 70°C; Temperature Coefficient: 100ppm/°C; Working Voltage: 75V; Package Height: 0.45mm; Package Length: 1.6mm; Package Width: 0.8mm; Supplier: Future Electronics; Supplier Part Number: 2048874; RoHS: Yes; Category: Chip SMD Resistors; Stock: 255000; Pricing: 5000=0.0015, 50000=0.0014, 150000=0.0014, 375000=0.0013, 1000000=0.0012 (USD); Mounting Technology: Surface Mount; Pins: 2; Package Shape: Rectangular; Case/Package: 0603; Terminal Finish: Nickel; Min Operating Temperature: -55°C; Max Operating Temperature: 155°C; Tolerance: 1%; JESD-609 Code: e3; Resistor Type: FIXED RESISTOR; Construction: Chip; Package Style: SMTMeter; Packaging: Tape and Reel; Technology: METAL GLAZE/THICK FILM; Termination: Wraparound; Reach SVHC Compliant: Yes; RoHS Compliant: Yes; ComponentLink1URL: https://datasheet.ciiva.com:443/pdfs/VipMasterIC/IC/YAGO/YAGO-S-A0008145938/YAGO-S-A0008145938-1.pdf?src-supplier=IHS+Markit; ComponentLink1Description: https://datasheet.ciiva.com:443/pdfs/VipMasterIC/IC/YAGO/YAGO-S-A0008145938/YAGO-S-A0008145938-1.pdf?src-supplier=IHS+Markit; ComponentLink2URL: https://datasheet.ciiva.com/2491/pyu-r-int-thick-7-2491295.pdf?src-supplier=Digikey; ComponentLink2Description: https://datasheet.ciiva.com/2491/pyu-r-int-thick-7-2491295.pdf?src-supplier=Digikey; ComponentLink3URL: https://datasheet.ciiva.com/2491/pyu-r-int-thick-7-2491296.pdf?src-supplier=Digikey; ComponentLink3Description: https://datasheet.ciiva.com/2491/pyu-r-int-thick-7-2491296.pdf?src-supplier=Digikey; ComponentLink4URL: https://datasheet.ciiva.com/2491/pyu-r-int-thick-7-2491294.pdf?src-supplier=Digikey; ComponentLink4Description: https://datasheet.ciiva.com/2491/pyu-r-int-thick-7-2491294.pdf?src-supplier=Digikey
footprint RC0603N_YAG
pins: 1, 2

## RC0603FR-1322RL
designator *  value 22R
RES 22 OHM 1% 1/10W 0603; Manufacturer: Yageo; Manufacturer Part Number: RC0603FR-1322RL; Additional Feature: LASER TRIMMABLE; Power: 100mW; Rated Temperature: 70°C; Temperature Coefficient: 100ppm/°C; Working Voltage: 75V; Package Height: 0.45mm; Package Length: 1.6mm; Package Width: 0.8mm; Supplier: Future Electronics; Supplier Part Number: 3067715; RoHS: Yes; Category: Chip SMD Resistors; Stock: 400000; Pricing: 20000=0.001, 100000=0.0009, 500000=0.0009, 1000000=0.0009, 3000000=0.0008 (USD); Mounting Technology: Surface Mount; Pins: 2; Package Shape: Rectangular; Case/Package: 0603; Terminal Finish: Nickel; Min Operating Temperature: -55°C; Max Operating Temperature: 155°C; Tolerance: 1%; JESD-609 Code: e3; Resistor Type: FIXED RESISTOR; Construction: Chip; Package Style: SMTMeter; Packaging: Tape and Reel; Technology: METAL GLAZE/THICK FILM; Termination: Wraparound; Reach SVHC Compliant: Yes; RoHS Compliant: Yes; ComponentLink1URL: https://datasheet.ciiva.com:443/pdfs/VipMasterIC/IC/YAGO/YAGO-S-A0008145938/YAGO-S-A0008145938-1.pdf?src-supplier=IHS+Markit; ComponentLink1Description: https://datasheet.ciiva.com:443/pdfs/VipMasterIC/IC/YAGO/YAGO-S-A0008145938/YAGO-S-A0008145938-1.pdf?src-supplier=IHS+Markit; ComponentLink2URL: https://datasheet.ciiva.com/12575/rc0603-272842-12575373.pdf?src-supplier=Mouser; ComponentLink2Description: https://datasheet.ciiva.com/12575/rc0603-272842-12575373.pdf?src-supplier=Mouser
footprint RC0603N_YAG
pins: 1, 2

## RC0603FR-07100RL
designator R?
RES SMT 100R 1% 0603 T/R PICK#92931; MP: RC0603FR-07100RL; Package: None; Availability: Unavailable; Price: None; Value: *
footprint RESC1607X60N
pins: 1, 2

## RC0603FR-07121KL
designator R?  value 121K  Case/Package: 0603  (hidden comment: RC0603FR-07121KL)
RES 121K OHM 1% 1/10W 0603; ComponentLink1URL: https://datasheet.ciiva.com:443/pdfs/VipMasterIC/IC/YAGO/YAGO-S-A0008145938/YAGO-S-A0008145938-1.pdf?src-supplier=IHS+Markit; ComponentLink1Description: https://datasheet.ciiva.com:443/pdfs/VipMasterIC/IC/YAGO/YAGO-S-A0008145938/YAGO-S-A0008145938-1.pdf?src-supplier=IHS+Markit; Supplier 1: Avnet; Supplier Part Number 1: RC0603FR-07121KL
footprint R0603 (Chip Resistor, 2-Leads, Body 1.60x0.80mm, IPC Low Density)
pins: 1, 2

## RC0603FR-07270KL
designator R?
Surface Mount Thick Film Resistor, RC Series, 270 kohm, 100 mW, - 1%, 50 V, 0603 [1608 Metric]; MP: RC0603FR-07270KL; MF: Yageo; Package: 1608 Yageo; Purchase-URL: https://pricing.snapeda.com/search/part/RC0603FR-07270KL/?ref=eda; Check_prices: https://www.snapeda.com/parts/RC0603FR-07270KL/Yageo/view-part/106076/?ref=eda; Price: None; Availability: Warning; SnapEDA_Link: https://www.snapeda.com/parts/RC0603FR-07270KL/Yageo/view-part/106076/?ref=snap; Value: *
footprint RESC1608X55N
pins: 1, 2

## RC0603FR-07536KL
designator R?  value 536K  Case/Package: 0603  (hidden comment: RC0603FR-07536KL)
RES 536K OHM 1% 1/10W 0603; ComponentLink1URL: https://datasheet.ciiva.com:443/pdfs/VipMasterIC/IC/YAGO/YAGO-S-A0008145938/YAGO-S-A0008145938-1.pdf?src-supplier=IHS+Markit; ComponentLink1Description: https://datasheet.ciiva.com:443/pdfs/VipMasterIC/IC/YAGO/YAGO-S-A0008145938/YAGO-S-A0008145938-1.pdf?src-supplier=IHS+Markit; Supplier 1: Avnet; Supplier Part Number 1: 49AK2679
footprint R0603 (Chip Resistor, 2-Leads, Body 1.60x0.80mm, IPC Low Density)
pins: 1, 2

## RC0603JR-070RL
designator *  value 0R
Metal Glaze/thick Film, 0.1W, 0ohm, Surface Mount, 0603; Manufacturer: Yageo; Manufacturer Part Number: RC0603JR-070RL; Power: 100mW; Rated Temperature: 70°C; Package Height: 0.45mm; Package Length: 1.6mm; Package Width: 0.8mm; Supplier: Future Electronics; Supplier Part Number: 3992146; RoHS: Yes; Category: Chip SMD Resistors; Stock: 21660000; Pricing: 5000=0.0015, 50000=0.0014, 150000=0.0014, 375000=0.0013, 1000000=0.0012 (USD); Mounting Technology: Surface Mount; Pins: 2; Package Shape: Rectangular; Case/Package: 0603; Terminal Finish: Nickel; Min Operating Temperature: -55°C; Max Operating Temperature: 155°C; JESD-609 Code: e3; Resistor Type: FIXED RESISTOR; Construction: Chip; Package Style: SMTMeter; Packaging: Tape and Reel; Technology: METAL GLAZE/THICK FILM; Termination: Wraparound; Reach SVHC Compliant: Yes; RoHS Compliant: Yes; ComponentLink1URL: https://datasheet.ciiva.com:443/pdfs/VipMasterIC/IC/YAGO/YAGO-S-A0008145938/YAGO-S-A0008145938-1.pdf?src-supplier=IHS+Markit; ComponentLink1Description: https://datasheet.ciiva.com:443/pdfs/VipMasterIC/IC/YAGO/YAGO-S-A0008145938/YAGO-S-A0008145938-1.pdf?src-supplier=IHS+Markit; ComponentLink2URL: https://datasheet.ciiva.com/11808/pyu-r-int-6-11808700.pdf?src-supplier=Rs; ComponentLink2Description: https://datasheet.ciiva.com/11808/pyu-r-int-6-11808700.pdf?src-supplier=Rs; ComponentLink3URL: https://datasheet.ciiva.com/22747/443971-22747530.pdf?src-supplier=Element14; ComponentLink3Description: https://datasheet.ciiva.com/22747/443971-22747530.pdf?src-supplier=Element14; ComponentLink4URL: https://datasheet.ciiva.com/12555/rc0603-272842-12555254.pdf?src-supplier=Mouser; ComponentLink4Description: https://datasheet.ciiva.com/12555/rc0603-272842-12555254.pdf?src-supplier=Mouser; ComponentLink5URL: https://datasheet.ciiva.com/7746/1738695-7746421.pdf?src-supplier=Element14; ComponentLink5Description: https://datasheet.ciiva.com/7746/1738695-7746421.pdf?src-supplier=Element14; ComponentLink6URL: https://datasheet.ciiva.com/7746/1738695-7746422.pdf?src-supplier=Element14; ComponentLink6Description: https://datasheet.ciiva.com/7746/1738695-7746422.pdf?src-supplier=Element14; ComponentLink7URL: https://datasheet.ciiva.com/8883/pyu-rc0603-51-rohs-l-4-8883045.pdf?src-supplier=Avnet; ComponentLink7Description: https://datasheet.ciiva.com/8883/pyu-rc0603-51-rohs-l-4-8883045.pdf?src-supplier=Avnet; ComponentLink8URL: https://datasheet.ciiva.com/15189/getdatasheetpartid-329462-15189845.pdf?src-supplier=Verical; ComponentLink8Description: https://datasheet.ciiva.com/15189/getdatasheetpartid-329462-15189845.pdf?src-supplier=Verical
footprint RES_RC0603_YAG
pins: 1, 2

## RC0603JR-07200RL
designator R?  value 200  (hidden comment: RC0603JR-07200RL)
RES 200 OHM 5% 1/10W 0603; MF: Yageo; SnapEDA_Link: https://www.snapeda.com/parts/RC0603JR-07200RL/Yageo/view-part/?ref=snap; Package: 1608 Yageo; MP: RC0603JR-07200RL; Check_prices: https://www.snapeda.com/parts/RC0603JR-07200RL/Yageo/view-part/?ref=eda
footprint RESC1608X55N
pins: 1, 2

## RC0605FR-07100RL
designator R?  value 100R  Case/Package: 0603  (hidden comment: *)
Fixed Resistor, Metal Glaze/thick Film, 0.1W, 100ohm, 75V, 1% +/-Tol, 100ppm/Cel, Surface Mount, 0603; Manufacturer: Yageo; Manufacturer Part Number: RC0603FR-07100RL; Power: 100mW; Rated Temperature: 70°C; Temperature Coefficient (ppm/Cel): 100; Additional Feature: LASER TRIMMABLE; Package Height: 0.45mm; Package Length: 1.6mm; Package Width: 0.8mm; Supplier: Avnet; Supplier Part Number: RC0603FR-07100RL; RoHS: Yes; Category: Chip SMD Resistors; Stock: 2650000; Pricing: 5000=0.00146, 10000=0.00141, 20000=0.00136, 30000=0.00131, 40000=0.00127 (USD); Mounting Technology: Surface Mount; Pins: 2; Package Shape: Rectangular; Terminal Finish: Nickel; Min Operating Temperature: -55°C; Max Operating Temperature: 155°C; Tolerance: 1%; Resistor Type: FIXED RESISTOR; Packaging: Tape and Reel; Technology: METAL GLAZE/THICK FILM; Termination: Wraparound; Working Voltage: 75V; JESD-609 Code: e3; Construction: Chip; RoHS Compliant: Yes; Reach SVHC Compliant: Yes; ComponentLink1URL: https://datasheet.ciiva.com:443/pdfs/VipMasterIC/IC/YAGO/YAGO-S-A0008145938/YAGO-S-A0008145938-1.pdf?src-supplier=IHS+Markit; ComponentLink1Description: https://datasheet.ciiva.com:443/pdfs/VipMasterIC/IC/YAGO/YAGO-S-A0008145938/YAGO-S-A0008145938-1.pdf?src-supplier=IHS+Markit
footprint RC0603N_YAG
pins: 1, 2

## Resistor
designator R?  (value not drawn)
TC1: 0; SimulationGenericComponent: True; TC2: 0
simulation model R_Resistor_Default (Model Description)
pins: 1, 2

## RJMG201K21120FR
designator J?
RJMG, Input output Connectors, 1x1 1000 base-T LED; MF: Amphenol ICC (Commercial Products); MP: RJMG201K21120FR; Package: None; Price: None; Check_prices: https://www.snapeda.com/parts/RJMG201K21120FR/Amphenol/view-part/?ref=eda; Value: *; SnapEDA_Link: https://www.snapeda.com/parts/RJMG201K21120FR/Amphenol/view-part/?ref=snap; Availability: In Stock; Purchase-URL: https://pricing.snapeda.com/search/part/RJMG201K21120FR/?ref=eda
footprint AMPHENOL_RJMG201K21120FR
pins: L1, L2, L3, L4, P1 GND (power), P2 TD1+, P3 TD1-, P4 TD2+, P5 TD2-, P6 TCT, P7 TD3+, P8 TD3-, P9 TD4+, P10 TD4-, S1 SHIELD, S2 SHIELD
text: GREEN

## RMCF0603FT10K0
designator *  value 10kR
RES 10K OHM 1% 1/10W 0603; Manufacturer: Stackpole Electronics; Manufacturer Part Number: RMCF0603FT10K0; Power Rating: 100mW; Temperature Coefficient: 100ppm/°C; Voltage Rating: 75V; Supplier: Arrow Electronics; Supplier Part Number: RMCF0603FT10K0; RoHS: Yes; Category: Chip SMD Resistors; Stock: 10250000; Pricing: 5000=0.003, 10000=0.0027, 25000=0.0023, 35000=0.0022, 50000=0.0021, 125000=0.0021 (USD); Mounting Technology: Surface Mount; Case/Package: 0603; Case Code (Metric): 1608; Case Code (Imperial): 0603; Contact Plating: Tin,Matte; Min Operating Temperature: -55°C; Max Operating Temperature: 155°C; Tolerance: 1%; Packaging: Tape and Reel; Number of Terminations: 2; Max Power Dissipation: 100mW; Features: Automotive AEC-Q200; Series: RMCF; Construction: Rectangular; Length: 1.55mm; Width: 0.031inch; Height: 0.022inch; Depth: 0.8mm; Ratings: AEC-Q200; Radiation Hardening: No; Military Standard: Not; Lead Free: Lead Free; RoHS Compliant: Yes; ComponentLink1URL: http://components.arrow.com/part/dataview/43747082S6756917N1174?src-supplier=Arrow+Electronics; ComponentLink1Description: http://components.arrow.com/part/dataview/43747082S6756917N1174?src-supplier=Arrow+Electronics; ComponentLink2URL: https://datasheet.octopart.com/RMCF0603FT10K0-Stackpole-Electronics-datasheet-11547379.pdf?src-supplier=Future+Electronics; ComponentLink2Description: https://datasheet.octopart.com/RMCF0603FT10K0-Stackpole-Electronics-datasheet-11547379.pdf?src-supplier=Future+Electronics; ComponentLink3URL: https://www.seielect.com/catalog/SEI-RMCF_RMCP.pdf?src-supplier=Avnet; ComponentLink3Description: https://www.seielect.com/catalog/SEI-RMCF_RMCP.pdf?src-supplier=Avnet; ComponentLink4URL: http://www.seielect.com/catalog/sei-rmc.pdf?src-supplier=Future+Electronics; ComponentLink4Description: http://www.seielect.com/catalog/sei-rmc.pdf?src-supplier=Future+Electronics; ComponentLink5URL: https://www.verical.com/server-webapp/html/getDatasheet?partID=360913&src-supplier=Verical; ComponentLink5Description: https://www.verical.com/server-webapp/html/getDatasheet?partID=360913&src-supplier=Verical; ComponentLink6URL: https://www.seielect.com/catalog/sei-rmcf_rmcp.pdf?src-supplier=Digikey; ComponentLink6Description: https://www.seielect.com/catalog/sei-rmcf_rmcp.pdf?src-supplier=Digikey; ComponentLink7URL: https://datasheet.octopart.com/RMCF0603FT10K0-Stackpole-Electronics-datasheet-155966809.pdf?src-supplier=Master+Electronics; ComponentLink7Description: https://datasheet.octopart.com/RMCF0603FT10K0-Stackpole-Electronics-datasheet-155966809.pdf?src-supplier=Master+Electronics
footprint STA_RMCF0603_STP
pins: 1, 2